# EAGLE library part 3-1827231-6 (library 3-1827231-6)
CONN RECPT 440POS 0.5MM DUAL SMT
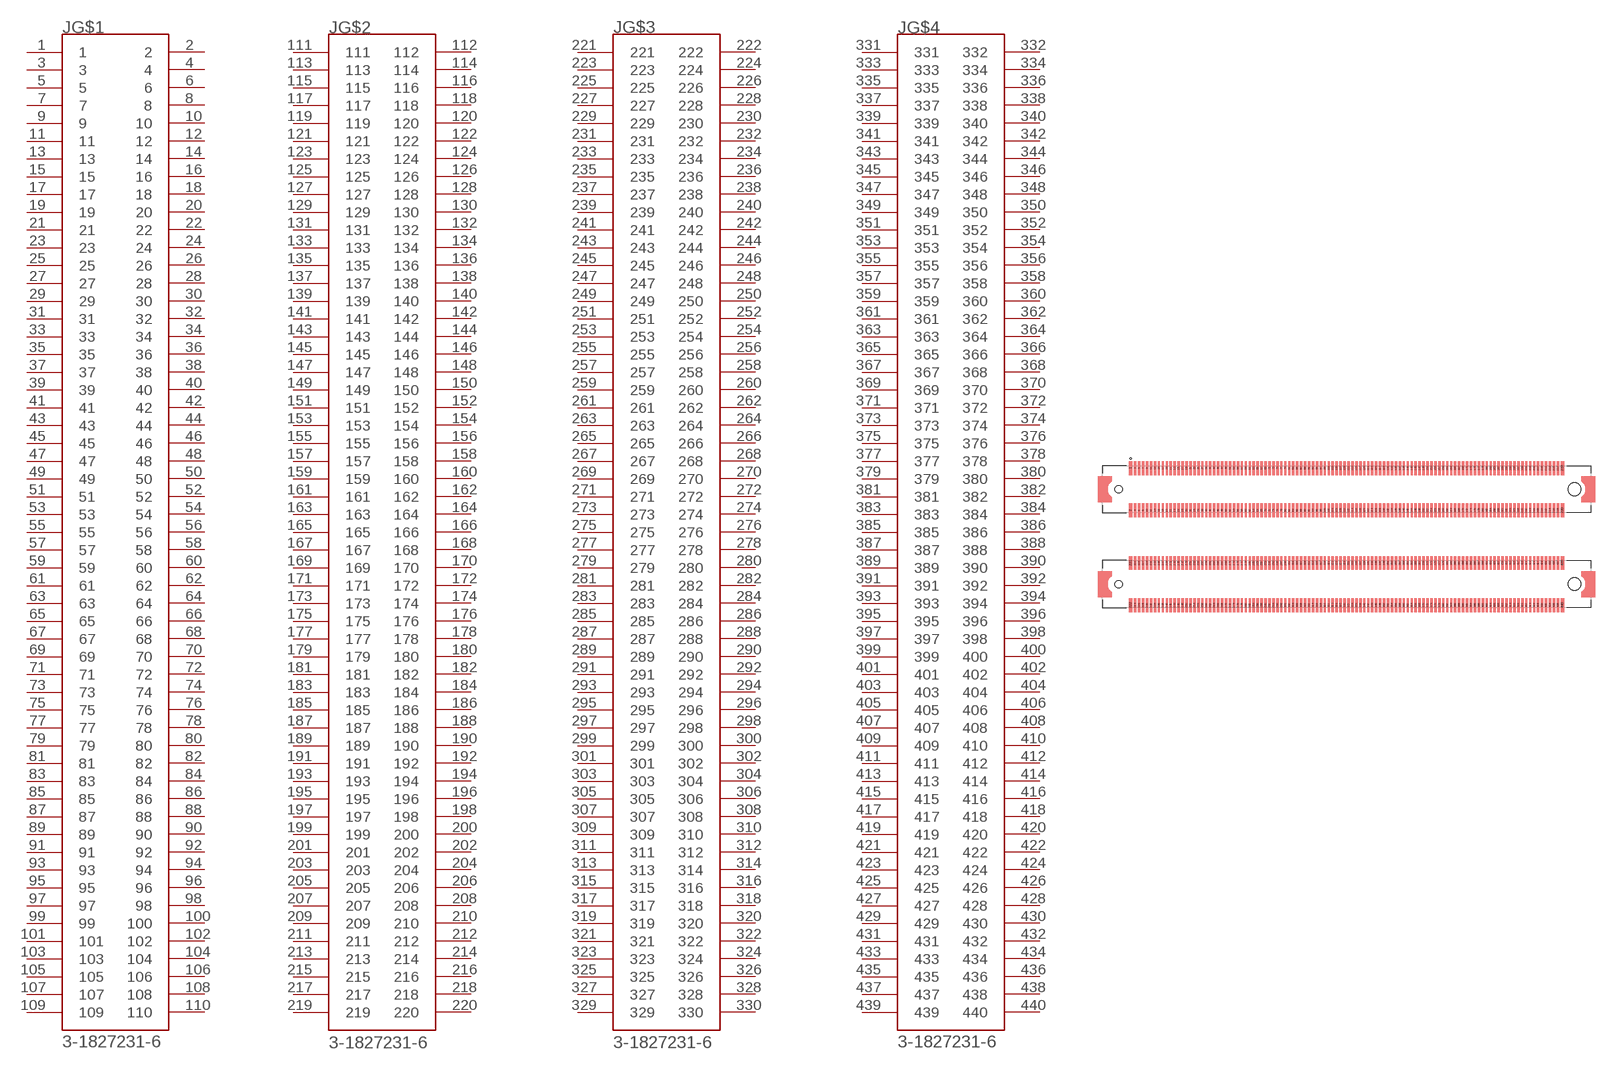
[diagram p0: symbol with the pads of TE_3-1827231-6; footprint TE_3-1827231-6]

Designator prefix J; gates G$1=3-1827231-6_SECTION_A G$2=3-1827231-6_SECTION_B G$3=3-1827231-6_SECTION_C G$4=3-1827231-6_SECTION_D

## 3-1827231-6 (Availability: Unavailable; Centerline_Pitch: .5; Comment: 3-1827231-6; Description: Socket Connector .5FHR04H,440,B,GIG,08/Sn,HT,NS 440 POS; EU_RoHS_Compliance: Compliant; MF: TE Connectivity; MP: 3-1827231-6; Number_of_Positions: 440; Package: None; Price: None; Product_Type: Connector; TE_purchase_URL: https://www.te.com/usa-en/product-3-1827231-6.html?te_bu=Cor&te_type=disp&te_campaign=seda_glo_cor-seda-global-disp-prtnr-fy19-seda-model-bom-cta_sma-317_1&elqCampaignId=32493)  [TE_3-1827231-6]
1  G$1:1  pas
2  G$1:2  pas
3  G$1:3  pas
4  G$1:4  pas
5  G$1:5  pas
6  G$1:6  pas
7  G$1:7  pas
8  G$1:8  pas
9  G$1:9  pas
10  G$1:10  pas
11  G$1:11  pas
12  G$1:12  pas
13  G$1:13  pas
14  G$1:14  pas
15  G$1:15  pas
16  G$1:16  pas
17  G$1:17  pas
18  G$1:18  pas
19  G$1:19  pas
20  G$1:20  pas
21  G$1:21  pas
22  G$1:22  pas
23  G$1:23  pas
24  G$1:24  pas
25  G$1:25  pas
26  G$1:26  pas
27  G$1:27  pas
28  G$1:28  pas
29  G$1:29  pas
30  G$1:30  pas
31  G$1:31  pas
32  G$1:32  pas
33  G$1:33  pas
34  G$1:34  pas
35  G$1:35  pas
36  G$1:36  pas
37  G$1:37  pas
38  G$1:38  pas
39  G$1:39  pas
40  G$1:40  pas
41  G$1:41  pas
42  G$1:42  pas
43  G$1:43  pas
44  G$1:44  pas
45  G$1:45  pas
46  G$1:46  pas
47  G$1:47  pas
48  G$1:48  pas
49  G$1:49  pas
50  G$1:50  pas
51  G$1:51  pas
52  G$1:52  pas
53  G$1:53  pas
54  G$1:54  pas
55  G$1:55  pas
56  G$1:56  pas
57  G$1:57  pas
58  G$1:58  pas
59  G$1:59  pas
60  G$1:60  pas
61  G$1:61  pas
62  G$1:62  pas
63  G$1:63  pas
64  G$1:64  pas
65  G$1:65  pas
66  G$1:66  pas
67  G$1:67  pas
68  G$1:68  pas
69  G$1:69  pas
70  G$1:70  pas
71  G$1:71  pas
72  G$1:72  pas
73  G$1:73  pas
74  G$1:74  pas
75  G$1:75  pas
76  G$1:76  pas
77  G$1:77  pas
78  G$1:78  pas
79  G$1:79  pas
80  G$1:80  pas
81  G$1:81  pas
82  G$1:82  pas
83  G$1:83  pas
84  G$1:84  pas
85  G$1:85  pas
86  G$1:86  pas
87  G$1:87  pas
88  G$1:88  pas
89  G$1:89  pas
90  G$1:90  pas
91  G$1:91  pas
92  G$1:92  pas
93  G$1:93  pas
94  G$1:94  pas
95  G$1:95  pas
96  G$1:96  pas
97  G$1:97  pas
98  G$1:98  pas
99  G$1:99  pas
100  G$1:100  pas
101  G$1:101  pas
102  G$1:102  pas
103  G$1:103  pas
104  G$1:104  pas
105  G$1:105  pas
106  G$1:106  pas
107  G$1:107  pas
108  G$1:108  pas
109  G$1:109  pas
110  G$1:110  pas
111  G$2:111  pas
112  G$2:112  pas
113  G$2:113  pas
114  G$2:114  pas
115  G$2:115  pas
116  G$2:116  pas
117  G$2:117  pas
118  G$2:118  pas
119  G$2:119  pas
120  G$2:120  pas
121  G$2:121  pas
122  G$2:122  pas
123  G$2:123  pas
124  G$2:124  pas
125  G$2:125  pas
126  G$2:126  pas
127  G$2:127  pas
128  G$2:128  pas
129  G$2:129  pas
130  G$2:130  pas
131  G$2:131  pas
132  G$2:132  pas
133  G$2:133  pas
134  G$2:134  pas
135  G$2:135  pas
136  G$2:136  pas
137  G$2:137  pas
138  G$2:138  pas
139  G$2:139  pas
140  G$2:140  pas
141  G$2:141  pas
142  G$2:142  pas
143  G$2:143  pas
144  G$2:144  pas
145  G$2:145  pas
146  G$2:146  pas
147  G$2:147  pas
148  G$2:148  pas
149  G$2:149  pas
150  G$2:150  pas
151  G$2:151  pas
152  G$2:152  pas
153  G$2:153  pas
154  G$2:154  pas
155  G$2:155  pas
156  G$2:156  pas
157  G$2:157  pas
158  G$2:158  pas
159  G$2:159  pas
160  G$2:160  pas
161  G$2:161  pas
162  G$2:162  pas
163  G$2:163  pas
164  G$2:164  pas
165  G$2:165  pas
166  G$2:166  pas
167  G$2:167  pas
168  G$2:168  pas
169  G$2:169  pas
170  G$2:170  pas
171  G$2:171  pas
172  G$2:172  pas
173  G$2:173  pas
174  G$2:174  pas
175  G$2:175  pas
176  G$2:176  pas
177  G$2:177  pas
178  G$2:178  pas
179  G$2:179  pas
180  G$2:180  pas
181  G$2:181  pas
182  G$2:182  pas
183  G$2:183  pas
184  G$2:184  pas
185  G$2:185  pas
186  G$2:186  pas
187  G$2:187  pas
188  G$2:188  pas
189  G$2:189  pas
190  G$2:190  pas
191  G$2:191  pas
192  G$2:192  pas
193  G$2:193  pas
194  G$2:194  pas
195  G$2:195  pas
196  G$2:196  pas
197  G$2:197  pas
198  G$2:198  pas
199  G$2:199  pas
200  G$2:200  pas
201  G$2:201  pas
202  G$2:202  pas
203  G$2:203  pas
204  G$2:204  pas
205  G$2:205  pas
206  G$2:206  pas
207  G$2:207  pas
208  G$2:208  pas
209  G$2:209  pas
210  G$2:210  pas
211  G$2:211  pas
212  G$2:212  pas
213  G$2:213  pas
214  G$2:214  pas
215  G$2:215  pas
216  G$2:216  pas
217  G$2:217  pas
218  G$2:218  pas
219  G$2:219  pas
220  G$2:220  pas
221  G$3:221  pas
222  G$3:222  pas
223  G$3:223  pas
224  G$3:224  pas
225  G$3:225  pas
226  G$3:226  pas
227  G$3:227  pas
228  G$3:228  pas
229  G$3:229  pas
230  G$3:230  pas
231  G$3:231  pas
232  G$3:232  pas
233  G$3:233  pas
234  G$3:234  pas
235  G$3:235  pas
236  G$3:236  pas
237  G$3:237  pas
238  G$3:238  pas
239  G$3:239  pas
240  G$3:240  pas
241  G$3:241  pas
242  G$3:242  pas
243  G$3:243  pas
244  G$3:244  pas
245  G$3:245  pas
246  G$3:246  pas
247  G$3:247  pas
248  G$3:248  pas
249  G$3:249  pas
250  G$3:250  pas
251  G$3:251  pas
252  G$3:252  pas
253  G$3:253  pas
254  G$3:254  pas
255  G$3:255  pas
256  G$3:256  pas
257  G$3:257  pas
258  G$3:258  pas
259  G$3:259  pas
260  G$3:260  pas
261  G$3:261  pas
262  G$3:262  pas
263  G$3:263  pas
264  G$3:264  pas
265  G$3:265  pas
266  G$3:266  pas
267  G$3:267  pas
268  G$3:268  pas
269  G$3:269  pas
270  G$3:270  pas
271  G$3:271  pas
272  G$3:272  pas
273  G$3:273  pas
274  G$3:274  pas
275  G$3:275  pas
276  G$3:276  pas
277  G$3:277  pas
278  G$3:278  pas
279  G$3:279  pas
280  G$3:280  pas
281  G$3:281  pas
282  G$3:282  pas
283  G$3:283  pas
284  G$3:284  pas
285  G$3:285  pas
286  G$3:286  pas
287  G$3:287  pas
288  G$3:288  pas
289  G$3:289  pas
290  G$3:290  pas
291  G$3:291  pas
292  G$3:292  pas
293  G$3:293  pas
294  G$3:294  pas
295  G$3:295  pas
296  G$3:296  pas
297  G$3:297  pas
298  G$3:298  pas
299  G$3:299  pas
300  G$3:300  pas
301  G$3:301  pas
302  G$3:302  pas
303  G$3:303  pas
304  G$3:304  pas
305  G$3:305  pas
306  G$3:306  pas
307  G$3:307  pas
308  G$3:308  pas
309  G$3:309  pas
310  G$3:310  pas
311  G$3:311  pas
312  G$3:312  pas
313  G$3:313  pas
314  G$3:314  pas
315  G$3:315  pas
316  G$3:316  pas
317  G$3:317  pas
318  G$3:318  pas
319  G$3:319  pas
320  G$3:320  pas
321  G$3:321  pas
322  G$3:322  pas
323  G$3:323  pas
324  G$3:324  pas
325  G$3:325  pas
326  G$3:326  pas
327  G$3:327  pas
328  G$3:328  pas
329  G$3:329  pas
330  G$3:330  pas
331  G$4:331  pas
332  G$4:332  pas
333  G$4:333  pas
334  G$4:334  pas
335  G$4:335  pas
336  G$4:336  pas
337  G$4:337  pas
338  G$4:338  pas
339  G$4:339  pas
340  G$4:340  pas
341  G$4:341  pas
342  G$4:342  pas
343  G$4:343  pas
344  G$4:344  pas
345  G$4:345  pas
346  G$4:346  pas
347  G$4:347  pas
348  G$4:348  pas
349  G$4:349  pas
350  G$4:350  pas
351  G$4:351  pas
352  G$4:352  pas
353  G$4:353  pas
354  G$4:354  pas
355  G$4:355  pas
356  G$4:356  pas
357  G$4:357  pas
358  G$4:358  pas
359  G$4:359  pas
360  G$4:360  pas
361  G$4:361  pas
362  G$4:362  pas
363  G$4:363  pas
364  G$4:364  pas
365  G$4:365  pas
366  G$4:366  pas
367  G$4:367  pas
368  G$4:368  pas
369  G$4:369  pas
370  G$4:370  pas
371  G$4:371  pas
372  G$4:372  pas
373  G$4:373  pas
374  G$4:374  pas
375  G$4:375  pas
376  G$4:376  pas
377  G$4:377  pas
378  G$4:378  pas
379  G$4:379  pas
380  G$4:380  pas
381  G$4:381  pas
382  G$4:382  pas
383  G$4:383  pas
384  G$4:384  pas
385  G$4:385  pas
386  G$4:386  pas
387  G$4:387  pas
388  G$4:388  pas
389  G$4:389  pas
390  G$4:390  pas
391  G$4:391  pas
392  G$4:392  pas
393  G$4:393  pas
394  G$4:394  pas
395  G$4:395  pas
396  G$4:396  pas
397  G$4:397  pas
398  G$4:398  pas
399  G$4:399  pas
400  G$4:400  pas
401  G$4:401  pas
402  G$4:402  pas
403  G$4:403  pas
404  G$4:404  pas
405  G$4:405  pas
406  G$4:406  pas
407  G$4:407  pas
408  G$4:408  pas
409  G$4:409  pas
410  G$4:410  pas
411  G$4:411  pas
412  G$4:412  pas
413  G$4:413  pas
414  G$4:414  pas
415  G$4:415  pas
416  G$4:416  pas
417  G$4:417  pas
418  G$4:418  pas
419  G$4:419  pas
420  G$4:420  pas
421  G$4:421  pas
422  G$4:422  pas
423  G$4:423  pas
424  G$4:424  pas
425  G$4:425  pas
426  G$4:426  pas
427  G$4:427  pas
428  G$4:428  pas
429  G$4:429  pas
430  G$4:430  pas
431  G$4:431  pas
432  G$4:432  pas
433  G$4:433  pas
434  G$4:434  pas
435  G$4:435  pas
436  G$4:436  pas
437  G$4:437  pas
438  G$4:438  pas
439  G$4:439  pas
440  G$4:440  pas

## Footprint TE_3-1827231-6 (pad centres in mm)
smd 0.45 x 1.75: 1 -27.325,8.675; 2 -27.325,3.325; 219 27.325,8.675; 220 27.325,3.325; 221 -27.325,-3.325; 222 -27.325,-8.675; 439 27.325,-3.325; 440 27.325,-8.675
smd 0.3 x 1.75: 3 -26.75,8.675; 4 -26.75,3.325; 5 -26.25,8.675; 6 -26.25,3.325; 7 -25.75,8.675; 8 -25.75,3.325; 9 -25.25,8.675; 10 -25.25,3.325; 11 -24.75,8.675; 12 -24.75,3.325; 13 -24.25,8.675; 14 -24.25,3.325; 15 -23.75,8.675; 16 -23.75,3.325; 17 -23.25,8.675; 18 -23.25,3.325; 19 -22.75,8.675; 20 -22.75,3.325; 21 -22.25,8.675; 22 -22.25,3.325; 23 -21.75,8.675; 24 -21.75,3.325; 25 -21.25,8.675; 26 -21.25,3.325; 27 -20.75,8.675; 28 -20.75,3.325; 29 -20.25,8.675; 30 -20.25,3.325; 31 -19.75,8.675; 32 -19.75,3.325; 33 -19.25,8.675; 34 -19.25,3.325; 35 -18.75,8.675; 36 -18.75,3.325; 37 -18.25,8.675; 38 -18.25,3.325; 39 -17.75,8.675; 40 -17.75,3.325; 41 -17.25,8.675; 42 -17.25,3.325; 43 -16.75,8.675; 44 -16.75,3.325; 45 -16.25,8.675; 46 -16.25,3.325; 47 -15.75,8.675; 48 -15.75,3.325; 49 -15.25,8.675; 50 -15.25,3.325; 51 -14.75,8.675; 52 -14.75,3.325; 53 -14.25,8.675; 54 -14.25,3.325; 55 -13.75,8.675; 56 -13.75,3.325; 57 -13.25,8.675; 58 -13.25,3.325; 59 -12.75,8.675; 60 -12.75,3.325; 61 -12.25,8.675; 62 -12.25,3.325; 63 -11.75,8.675; 64 -11.75,3.325; 65 -11.25,8.675; 66 -11.25,3.325; 67 -10.75,8.675; 68 -10.75,3.325; 69 -10.25,8.675; 70 -10.25,3.325; 71 -9.75,8.675; 72 -9.75,3.325; 73 -9.25,8.675; 74 -9.25,3.325; 75 -8.75,8.675; 76 -8.75,3.325; 77 -8.25,8.675; 78 -8.25,3.325; 79 -7.75,8.675; 80 -7.75,3.325; 81 -7.25,8.675; 82 -7.25,3.325; 83 -6.75,8.675; 84 -6.75,3.325; 85 -6.25,8.675; 86 -6.25,3.325; 87 -5.75,8.675; 88 -5.75,3.325; 89 -5.25,8.675; 90 -5.25,3.325; 91 -4.75,8.675; 92 -4.75,3.325; 93 -4.25,8.675; 94 -4.25,3.325; 95 -3.75,8.675; 96 -3.75,3.325; 97 -3.25,8.675; 98 -3.25,3.325; 99 -2.75,8.675; 100 -2.75,3.325; 101 -2.25,8.675; 102 -2.25,3.325; 103 -1.75,8.675; 104 -1.75,3.325; 105 -1.25,8.675; 106 -1.25,3.325; 107 -0.75,8.675; 108 -0.75,3.325; 109 -0.25,8.675; 110 -0.25,3.325; 111 0.25,8.675; 112 0.25,3.325; 113 0.75,8.675; 114 0.75,3.325; 115 1.25,8.675; 116 1.25,3.325; 117 1.75,8.675; 118 1.75,3.325; 119 2.25,8.675; 120 2.25,3.325; 121 2.75,8.675; 122 2.75,3.325; 123 3.25,8.675; 124 3.25,3.325; 125 3.75,8.675; 126 3.75,3.325; 127 4.25,8.675; 128 4.25,3.325; 129 4.75,8.675; 130 4.75,3.325; 131 5.25,8.675; 132 5.25,3.325; 133 5.75,8.675; 134 5.75,3.325; 135 6.25,8.675; 136 6.25,3.325; 137 6.75,8.675; 138 6.75,3.325; 139 7.25,8.675; 140 7.25,3.325; 141 7.75,8.675; 142 7.75,3.325; 143 8.25,8.675; 144 8.25,3.325; 145 8.75,8.675; 146 8.75,3.325; 147 9.25,8.675; 148 9.25,3.325; 149 9.75,8.675; 150 9.75,3.325; 151 10.25,8.675; 152 10.25,3.325; 153 10.75,8.675; 154 10.75,3.325; 155 11.25,8.675; 156 11.25,3.325; 157 11.75,8.675; 158 11.75,3.325; 159 12.25,8.675; 160 12.25,3.325; 161 12.75,8.675; 162 12.75,3.325; 163 13.25,8.675; 164 13.25,3.325; 165 13.75,8.675; 166 13.75,3.325; 167 14.25,8.675; 168 14.25,3.325; 169 14.75,8.675; 170 14.75,3.325; 171 15.25,8.675; 172 15.25,3.325; 173 15.75,8.675; 174 15.75,3.325; 175 16.25,8.675; 176 16.25,3.325; 177 16.75,8.675; 178 16.75,3.325; 179 17.25,8.675; 180 17.25,3.325; 181 17.75,8.675; 182 17.75,3.325; 183 18.25,8.675; 184 18.25,3.325; 185 18.75,8.675; 186 18.75,3.325; 187 19.25,8.675; 188 19.25,3.325; 189 19.75,8.675; 190 19.75,3.325; 191 20.25,8.675; 192 20.25,3.325; 193 20.75,8.675; 194 20.75,3.325; 195 21.25,8.675; 196 21.25,3.325; 197 21.75,8.675; 198 21.75,3.325; 199 22.25,8.675; 200 22.25,3.325; 201 22.75,8.675; 202 22.75,3.325; 203 23.25,8.675; 204 23.25,3.325; 205 23.75,8.675; 206 23.75,3.325; 207 24.25,8.675; 208 24.25,3.325; 209 24.75,8.675; 210 24.75,3.325; 211 25.25,8.675; 212 25.25,3.325; 213 25.75,8.675; 214 25.75,3.325; 215 26.25,8.675; 216 26.25,3.325; 217 26.75,8.675; 218 26.75,3.325; 223 -26.75,-3.325; 224 -26.75,-8.675; 225 -26.25,-3.325; 226 -26.25,-8.675; 227 -25.75,-3.325; 228 -25.75,-8.675; 229 -25.25,-3.325; 230 -25.25,-8.675; 231 -24.75,-3.325; 232 -24.75,-8.675; 233 -24.25,-3.325; 234 -24.25,-8.675; 235 -23.75,-3.325; 236 -23.75,-8.675; 237 -23.25,-3.325; 238 -23.25,-8.675; 239 -22.75,-3.325; 240 -22.75,-8.675; 241 -22.25,-3.325; 242 -22.25,-8.675; 243 -21.75,-3.325; 244 -21.75,-8.675; 245 -21.25,-3.325; 246 -21.25,-8.675; 247 -20.75,-3.325; 248 -20.75,-8.675; 249 -20.25,-3.325; 250 -20.25,-8.675; 251 -19.75,-3.325; 252 -19.75,-8.675; 253 -19.25,-3.325; 254 -19.25,-8.675; 255 -18.75,-3.325; 256 -18.75,-8.675; 257 -18.25,-3.325; 258 -18.25,-8.675; 259 -17.75,-3.325; 260 -17.75,-8.675; 261 -17.25,-3.325; 262 -17.25,-8.675; 263 -16.75,-3.325; 264 -16.75,-8.675; 265 -16.25,-3.325; 266 -16.25,-8.675; 267 -15.75,-3.325; 268 -15.75,-8.675; 269 -15.25,-3.325; 270 -15.25,-8.675; 271 -14.75,-3.325; 272 -14.75,-8.675; 273 -14.25,-3.325; 274 -14.25,-8.675; 275 -13.75,-3.325; 276 -13.75,-8.675; 277 -13.25,-3.325; 278 -13.25,-8.675; 279 -12.75,-3.325; 280 -12.75,-8.675; 281 -12.25,-3.325; 282 -12.25,-8.675; 283 -11.75,-3.325; 284 -11.75,-8.675; 285 -11.25,-3.325; 286 -11.25,-8.675; 287 -10.75,-3.325; 288 -10.75,-8.675; 289 -10.25,-3.325; 290 -10.25,-8.675; 291 -9.75,-3.325; 292 -9.75,-8.675; 293 -9.25,-3.325; 294 -9.25,-8.675; 295 -8.75,-3.325; 296 -8.75,-8.675; 297 -8.25,-3.325; 298 -8.25,-8.675; 299 -7.75,-3.325; 300 -7.75,-8.675; 301 -7.25,-3.325; 302 -7.25,-8.675; 303 -6.75,-3.325; 304 -6.75,-8.675; 305 -6.25,-3.325; 306 -6.25,-8.675; 307 -5.75,-3.325; 308 -5.75,-8.675; 309 -5.25,-3.325; 310 -5.25,-8.675; 311 -4.75,-3.325; 312 -4.75,-8.675; 313 -4.25,-3.325; 314 -4.25,-8.675; 315 -3.75,-3.325; 316 -3.75,-8.675; 317 -3.25,-3.325; 318 -3.25,-8.675; 319 -2.75,-3.325; 320 -2.75,-8.675; 321 -2.25,-3.325; 322 -2.25,-8.675; 323 -1.75,-3.325; 324 -1.75,-8.675; 325 -1.25,-3.325; 326 -1.25,-8.675; 327 -0.75,-3.325; 328 -0.75,-8.675; 329 -0.25,-3.325; 330 -0.25,-8.675; 331 0.25,-3.325; 332 0.25,-8.675; 333 0.75,-3.325; 334 0.75,-8.675; 335 1.25,-3.325; 336 1.25,-8.675; 337 1.75,-3.325; 338 1.75,-8.675; 339 2.25,-3.325; 340 2.25,-8.675; 341 2.75,-3.325; 342 2.75,-8.675; 343 3.25,-3.325; 344 3.25,-8.675; 345 3.75,-3.325; 346 3.75,-8.675; 347 4.25,-3.325; 348 4.25,-8.675; 349 4.75,-3.325; 350 4.75,-8.675; 351 5.25,-3.325; 352 5.25,-8.675; 353 5.75,-3.325; 354 5.75,-8.675; 355 6.25,-3.325; 356 6.25,-8.675; 357 6.75,-3.325; 358 6.75,-8.675; 359 7.25,-3.325; 360 7.25,-8.675; 361 7.75,-3.325; 362 7.75,-8.675; 363 8.25,-3.325; 364 8.25,-8.675; 365 8.75,-3.325; 366 8.75,-8.675; 367 9.25,-3.325; 368 9.25,-8.675; 369 9.75,-3.325; 370 9.75,-8.675; 371 10.25,-3.325; 372 10.25,-8.675; 373 10.75,-3.325; 374 10.75,-8.675; 375 11.25,-3.325; 376 11.25,-8.675; 377 11.75,-3.325; 378 11.75,-8.675; 379 12.25,-3.325; 380 12.25,-8.675; 381 12.75,-3.325; 382 12.75,-8.675; 383 13.25,-3.325; 384 13.25,-8.675; 385 13.75,-3.325; 386 13.75,-8.675; 387 14.25,-3.325; 388 14.25,-8.675; 389 14.75,-3.325; 390 14.75,-8.675; 391 15.25,-3.325; 392 15.25,-8.675; 393 15.75,-3.325; 394 15.75,-8.675; 395 16.25,-3.325; 396 16.25,-8.675; 397 16.75,-3.325; 398 16.75,-8.675; 399 17.25,-3.325; 400 17.25,-8.675; 401 17.75,-3.325; 402 17.75,-8.675; 403 18.25,-3.325; 404 18.25,-8.675; 405 18.75,-3.325; 406 18.75,-8.675; 407 19.25,-3.325; 408 19.25,-8.675; 409 19.75,-3.325; 410 19.75,-8.675; 411 20.25,-3.325; 412 20.25,-8.675; 413 20.75,-3.325; 414 20.75,-8.675; 415 21.25,-3.325; 416 21.25,-8.675; 417 21.75,-3.325; 418 21.75,-8.675; 419 22.25,-3.325; 420 22.25,-8.675; 421 22.75,-3.325; 422 22.75,-8.675; 423 23.25,-3.325; 424 23.25,-8.675; 425 23.75,-3.325; 426 23.75,-8.675; 427 24.25,-3.325; 428 24.25,-8.675; 429 24.75,-3.325; 430 24.75,-8.675; 431 25.25,-3.325; 432 25.25,-8.675; 433 25.75,-3.325; 434 25.75,-8.675; 435 26.25,-3.325; 436 26.25,-8.675; 437 26.75,-3.325; 438 26.75,-8.675
hole 1.6 at 28.85,6
hole 0.9 at -28.85,6
hole 1.6 at 28.85,-6
hole 0.9 at -28.85,-6